# Altium footprint library TRIM_35WR10KLFTR.PcbLib: 1 footprints
Each footprint in its own frame and in the unit in brackets; x right, y up, seen from the top. Pads: shape width x height; smd on the part's side, far side on the other; paste and mask are expansions set on the pad; w line width, h text height; cw(c..) or ccw(c..) is an arc to the next point about the centre after c.
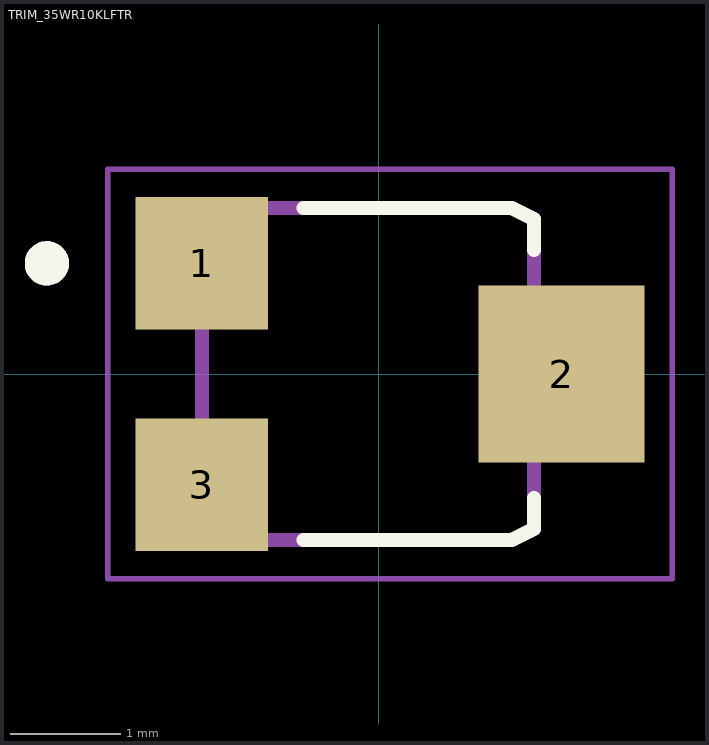
[diagram p0: the footprint, top view; thin cyan lines are the x and y axes]

## TRIM_35WR10KLFTR [mm]
height 1.8
pads (3):
  rect 1.2x1.2 smd: 1(-1.6,1) 3(-1.6,-1)
  rect 1.5x1.6 smd: 2(1.65,0)
Top Overlay:
  circle w0.2: c-3,1 r0.1
  lines w0.127: -0.68,-1.5 1.2,-1.5 1.4,-1.4 1.4,-1.12 ; -0.68,1.5 1.2,1.5 1.4,1.4 1.4,1.12
Mechanical 13:
  circle w0.2: c-3,1 r0.1
  lines w0.127: -1.6,-1.5 -1.6,1.5 1.2,1.5 1.4,1.4 1.4,-1.4 1.2,-1.5 -1.6,-1.5
Mechanical 15:
  lines w0.05: -2.45,-1.85 -2.45,1.85 2.65,1.85 2.65,-1.85 -2.45,-1.85
3D body "step_temp.STEP": height 1.78, standoff -1.67, extent -0.635,-1.516 0.946,1.516